# Altium footprint library Components - 17.07.26 - 23.14.PcbLib: 4 footprints
Each footprint in its own frame and in the unit in brackets; x right, y up, seen from the top. Pads: shape width x height; smd on the part's side, far side on the other; paste and mask are expansions set on the pad; w line width, h text height; cw(c..) or ccw(c..) is an arc to the next point about the centre after c.
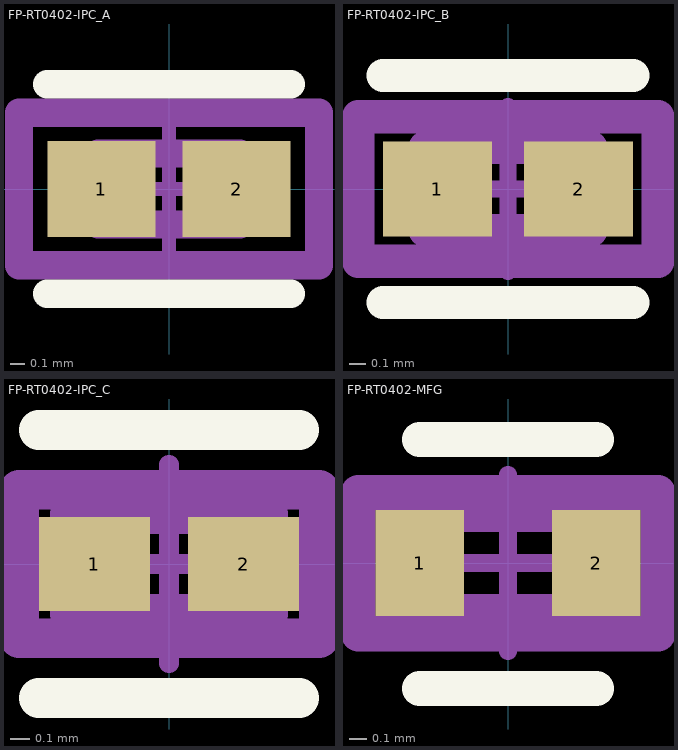
[diagram p0: the footprints below, top view; thin cyan lines are the x and y axes]

## FP-RT0402-IPC_A [mm]
pads (2):
  rect 0.76x0.672 smd paste+0 mask+0: 1(-0.476,0) 2(0.476,0)
Top Overlay:
  lines w0.2: -0.856,-0.736 0.856,-0.736 ; -0.856,0.736 0.856,0.736
Top Assembly:
  lines w0.2: -1.056,-0.536 1.056,-0.536 1.056,0.536 -1.056,0.536 -1.056,-0.536
  text ".Designator" at 0,0.188 h1
Top 3D Body:
  lines w0.2: -0.5,-0.25 0.5,-0.25 0.5,0.25 -0.5,0.25 -0.5,-0.25
Top Courtyard:
  lines w0.2: -1.056,-0.536 1.056,-0.536 1.056,0.536 -1.056,0.536 -1.056,-0.536
Top Component Center:
  lines w0.1: -0.5,0 0.5,0 ; 0,-0.5 0,0.5
3D body "Res_Yageo_RT0402BRE07118KL_eec.STEP": height 0.25, standoff 0, extent -1.056,-0.536 1.056,0.536

## FP-RT0402-IPC_B [mm]
pads (2):
  rect 0.66x0.572 smd paste+0 mask+0: 1(-0.426,0) 2(0.426,0)
Top Overlay:
  lines w0.2: -0.756,-0.686 0.756,-0.686 ; -0.756,0.686 0.756,0.686
Top Assembly:
  lines w0.2: -0.906,-0.436 0.906,-0.436 0.906,0.436 -0.906,0.436 -0.906,-0.436
  text ".Designator" at 0,0.188 h1
Top 3D Body:
  lines w0.2: -0.5,-0.25 0.5,-0.25 0.5,0.25 -0.5,0.25 -0.5,-0.25
Top Courtyard:
  lines w0.2: -0.906,-0.436 0.906,-0.436 0.906,0.436 -0.906,0.436 -0.906,-0.436
Top Component Center:
  lines w0.1: -0.5,0 0.5,0 ; 0,-0.5 0,0.5
3D body "Res_Yageo_RT0402BRE07118KL_eec.STEP": height 0.25, standoff 0, extent -0.906,-0.436 0.906,0.436

## FP-RT0402-IPC_C [mm]
pads (2):
  rect 0.56x0.472 smd paste+0 mask+0: 1(-0.376,0) 2(0.376,0)
Top Overlay:
  lines w0.2: -0.656,-0.675 0.656,-0.675 ; -0.656,0.675 0.656,0.675
Top Assembly:
  lines w0.2: -0.756,-0.375 0.756,-0.375 0.756,0.375 -0.756,0.375 -0.756,-0.375
  text ".Designator" at 0,0.188 h1
Top 3D Body:
  lines w0.2: -0.5,-0.25 0.5,-0.25 0.5,0.25 -0.5,0.25 -0.5,-0.25
Top Courtyard:
  lines w0.2: -0.756,-0.375 0.756,-0.375 0.756,0.375 -0.756,0.375 -0.756,-0.375
Top Component Center:
  lines w0.1: -0.5,0 0.5,0 ; 0,-0.5 0,0.5
3D body "Res_Yageo_RT0402BRE07118KL_eec.STEP": height 0.25, standoff 0, extent -0.756,-0.375 0.756,0.375

## FP-RT0402-MFG [mm]
pads (2):
  rect 0.5x0.6 smd paste+0 mask+0: 1(-0.5,0) 2(0.5,0)
Top Overlay:
  lines w0.2: -0.5,-0.711 0.5,-0.711 ; -0.5,0.7 0.5,0.7
Top Assembly:
  lines w0.2: -0.85,-0.4 0.85,-0.4 0.85,0.4 -0.85,0.4 -0.85,-0.4
  text ".Designator" at 0,0.188 h1
Top 3D Body:
  lines w0.2: -0.55,-0.275 0.55,-0.275 0.55,0.275 -0.55,0.275 -0.55,-0.275
Top Courtyard:
  lines w0.2: -0.85,-0.4 0.85,-0.4 0.85,0.4 -0.85,0.4 -0.85,-0.4
Top Component Center:
  lines w0.1: -0.5,0 0.5,0 ; 0,-0.5 0,0.5
3D body "Res_Yageo_RT0402BRE07118KL_eec.STEP": height 0.25, standoff 0, extent -0.85,-0.4 0.85,0.4